# Altium schematic symbol library SCH - LOGIC - SN75452BDR.SCHLIB: 1 symbol
Pins are listed as number, name and electrical type; pins without a type are passive.

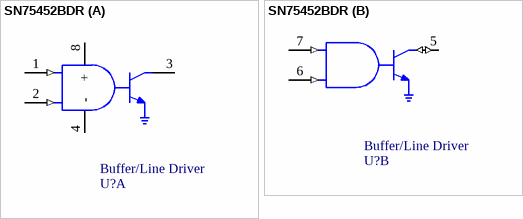
[diagram p0: symbol SN75452BDR]

## SN75452BDR
designator U?, comment Buffer/Line Driver
Buffers & Line Drivers Dual Very-HS HC Peripheral Drivers
part A pins: 1 1A (in), 2 1B (in), 3 1Y (oc), 4 - (power), 8 + (power)
part B pins: 5 2Y (io), 6 2A (in), 7 2B (in)